# Altium schematic symbol library Condensatoren.SchLib: 5 symbols
Pins are listed as number, name and electrical type; pins without a type are passive.

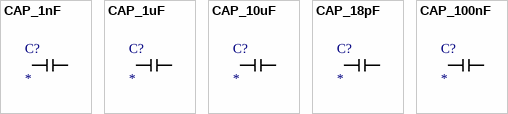
[diagram p0: symbols CAP_1nF to CAP_100nF]

## CAP_1nF
designator C?
footprint CAP_1nF
pins: 1, 2

## CAP_1uF
designator C?
footprint CAP_1uF
pins: 1, 2

## CAP_10uF
designator C?
footprint CAP_10uF
pins: 1, 2

## CAP_18pF
designator C?
footprint CAP_18pF
pins: 1, 2

## CAP_100nF
designator C?
footprint CAP_100nF
pins: 1, 2